# Altium schematic symbol library 9207-1.SchLib: 1 symbol
Pins are listed as number, name and electrical type; pins without a type are passive.

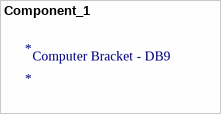
[diagram p0: symbol Component_1]

## Component_1
designator *
footprint 9207-1 (Computer Bracket - DB9)
text: Computer Bracket - DB9